# Altium footprint library k7_ext.PcbLib: 274 footprints (part 14 of 18)
Each footprint in its own frame and in the unit in brackets; x right, y up, seen from the top. Pads: shape width x height; smd on the part's side, far side on the other; paste and mask are expansions set on the pad; w line width, h text height; cw(c..) or ccw(c..) is an arc to the next point about the centre after c.
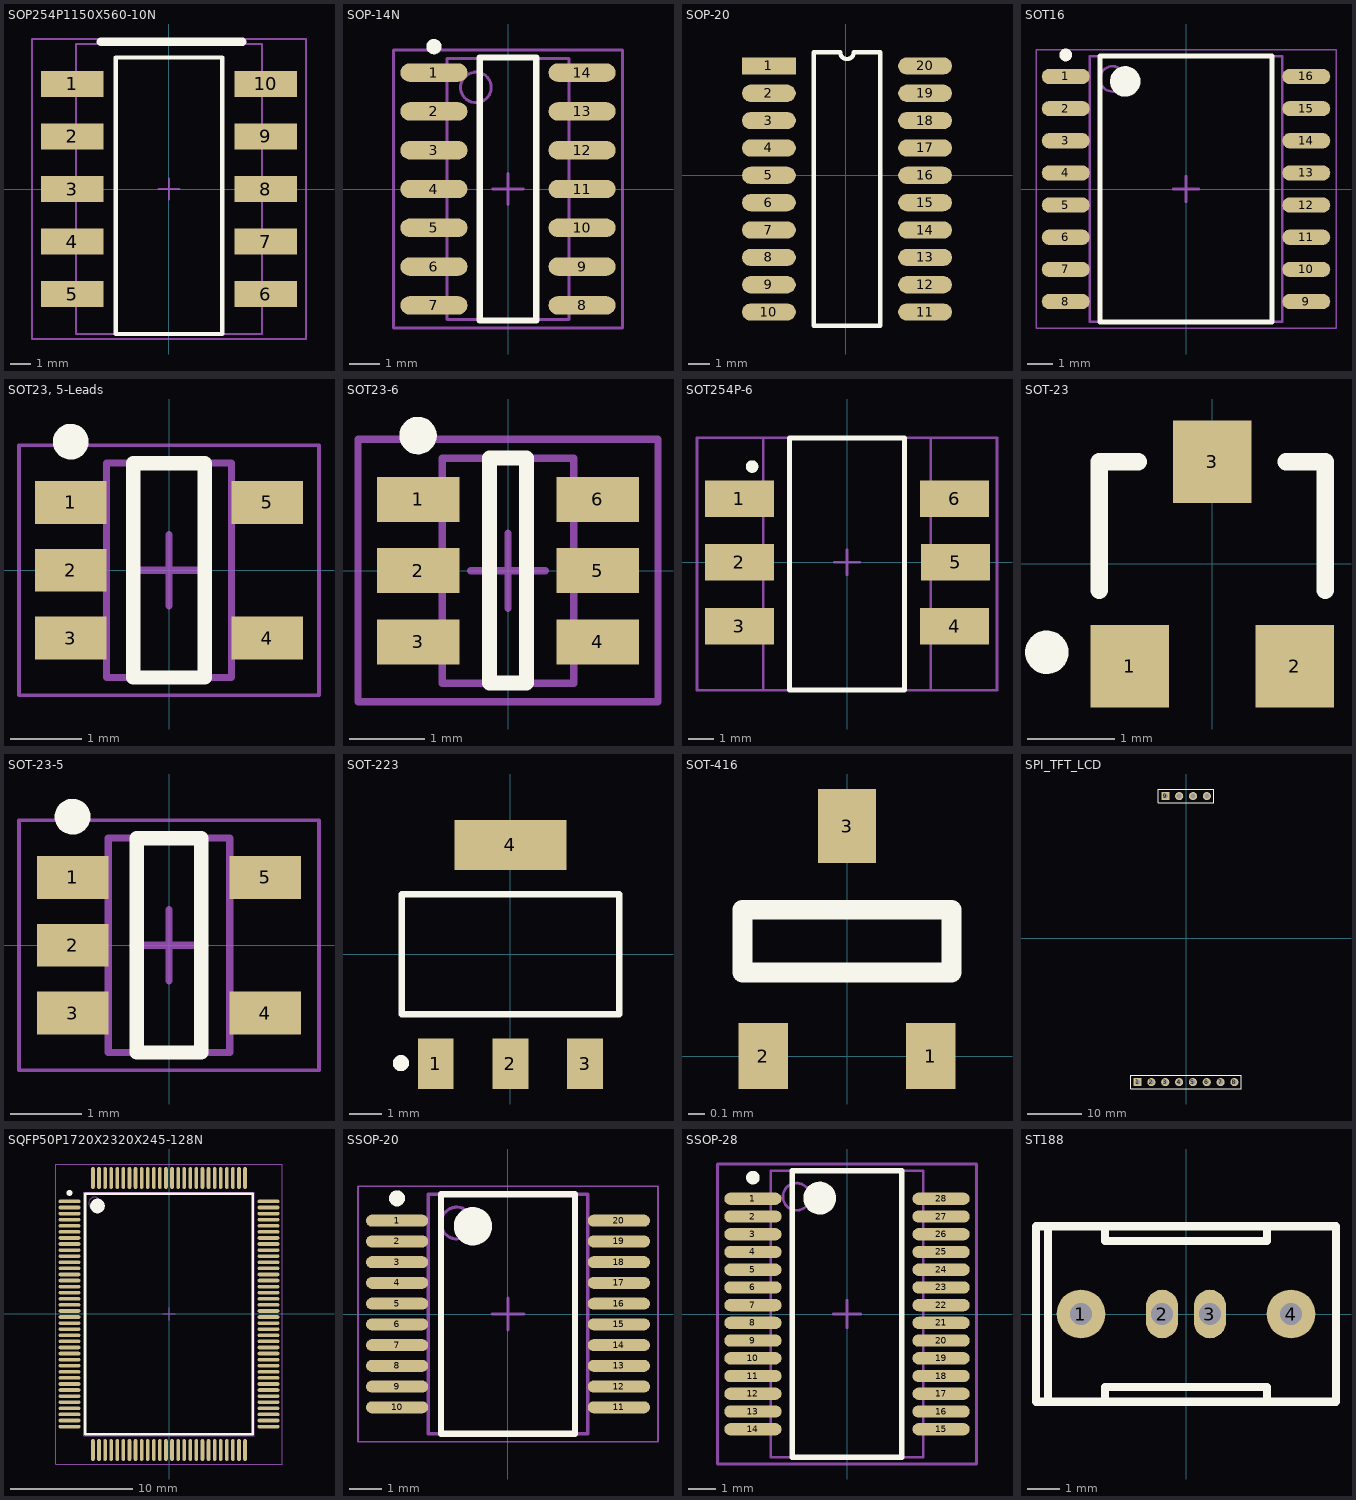
[diagram p13: the footprints below, top view; thin cyan lines are the x and y axes]

## SOP254P1150X560-10N [mm] "双继电器"
height 5.6
pads (10):
  rect 3x1.25 smd: 1(-4.675,5.08) 2(-4.675,2.54) 3(-4.675,0) 4(-4.675,-2.54) 5(-4.675,-5.08) 6(4.675,-5.08) 7(4.675,-2.54) 8(4.675,0) 9(4.675,2.54) 10(4.675,5.08)
Top Overlay:
  lines w0.2: -2.575,-7 2.575,-7 2.575,6.35 -2.575,6.35 -2.575,-7
  lines w0.4: -3.302,7.112 3.556,7.112
Mechanical 13:
  lines w0.1: -4.5,-7 4.5,-7 4.5,7 -4.5,7 -4.5,-7
Mechanical 15:
  lines w0.1: -0.5,0 0.5,0 ; 0,-0.5 0,0.5 ; -6.625,-7.25 6.625,-7.25 6.625,7.25 -6.625,7.25 -6.625,-7.25
3D body: height 5.6, standoff 0.25, extent -4.5,-7 4.5,7

## SOP-14N [mm] "SOP, 14-Leads,"
height 1.75
pads (14):
  oval 2.2x0.6 smd: 1(-2.425,3.81) 2(-2.425,2.54) 3(-2.425,1.27) 4(-2.425,0) 5(-2.425,-1.27) 6(-2.425,-2.54) 7(-2.425,-3.81) 8(2.425,-3.81) 9(2.425,-2.54) 10(2.425,-1.27) 11(2.425,0) 12(2.425,1.27) 13(2.425,2.54) 14(2.425,3.81)
Top Overlay:
  circle w0.25: c-2.425,4.66 r0.125
  lines w0.2: -0.925,-4.3 0.925,-4.3 0.925,4.3 -0.925,4.3 -0.925,-4.3
Mechanical 13:
  circle w0.1: c-1.05,3.325 r0.5
  lines w0.1: -2,-4.275 2,-4.275 2,4.275 -2,4.275 -2,-4.275
Mechanical 15:
  lines w0.1: -0.5,0 0.5,0 ; 0,-0.5 0,0.5 ; -3.75,-4.55 3.75,-4.55 3.75,4.55 -3.75,4.55 -3.75,-4.55
3D body: height 1.75, standoff 0.2, extent -2,-4.275 2,4.275

## SOP-20 [mm] "74ls244"
height 2.032
pads (20):
  rect 2.5x0.8 smd: 1(-3.556,5.08)
  oval 2.5x0.8 smd: 2(-3.556,3.81) 3(-3.556,2.54) 4(-3.556,1.27) 5(-3.556,0) 6(-3.556,-1.27) 7(-3.556,-2.54) 8(-3.556,-3.81) 9(-3.556,-5.08) 10(-3.556,-6.35) 11(3.694,-6.35) 12(3.694,-5.08) 13(3.694,-3.81) 14(3.694,-2.54) 15(3.694,-1.27) 16(3.694,0) 17(3.694,1.27) 18(3.694,2.54) 19(3.694,3.81) 20(3.694,5.08)
Top Overlay:
  lines w0.2: -1.471,-6.985 1.609,-6.985 1.609,5.715 0.386,5.715 cw(c0.069,5.715) -0.249,5.715 -1.471,5.715 -1.471,-6.985

## SOT16 [mm] "SOIC, 16-Leads, Body 10.30x7.50mm, Pitch 1.27mm, IPC Medium Density"
height 2.45
pads (16):
  oval 1.9x0.6 smd: 1(-4.75,4.445) 2(-4.75,3.175) 3(-4.75,1.905) 4(-4.75,0.635) 5(-4.75,-0.635) 6(-4.75,-1.905) 7(-4.75,-3.175) 8(-4.75,-4.445) 9(4.75,-4.445) 10(4.75,-3.175) 11(4.75,-1.905) 12(4.75,-0.635) 13(4.75,0.635) 14(4.75,1.905) 15(4.75,3.175) 16(4.75,4.445)
Top Overlay:
  circle w0.6: c-2.4,4.25 r0.3
  circle w0.25: c-4.75,5.295 r0.125
  lines w0.2: -3.4,-5.25 3.4,-5.25 3.4,5.25 -3.4,5.25 -3.4,-5.25
Mechanical 13:
  circle w0.1: c-2.9,4.35 r0.5
  lines w0.1: -3.8,-5.25 3.8,-5.25 3.8,5.25 -3.8,5.25 -3.8,-5.25
Mechanical 15:
  lines w0.05: -5.925,-5.5 5.925,-5.5 5.925,5.5 -5.925,5.5 -5.925,-5.5
  lines w0.1: -0.5,0 0.5,0 ; 0,-0.5 0,0.5
3D body: height 2.45, standoff 0.3, extent -3.8,-5.25 3.8,5.25

## SOT23, 5-Leads [mm] "SOT23, 5-Leads, Body 2.90x2.80mm, Pitch 0.95mm, IPC Medium Density"
height 1.45
pads (5):
  rect 1x0.6 smd: 1(-1.375,0.95) 2(-1.375,0) 3(-1.375,-0.95) 4(1.375,-0.95) 5(1.375,0.95)
Top Overlay:
  circle w0.25: c-1.375,1.8 r0.125
  lines w0.2: -0.5,-1.5 0.5,-1.5 0.5,1.5 -0.5,1.5 -0.5,-1.5
Mechanical 13:
  lines w0.1: -0.875,-1.5 -0.875,1.5 0.875,1.5 0.875,-1.5 -0.875,-1.5
Mechanical 15:
  lines w0.05: -2.1,-1.75 -2.1,1.75 2.1,1.75 2.1,-1.75 -2.1,-1.75
  lines w0.1: -0.5,0 0.5,0 ; 0,-0.5 0,0.5
3D body: height 1.45, standoff 0.15, extent -0.875,-1.5 0.875,1.5

## SOT23-6 [mm] "Max4173"
height 1.45
pads (6):
  rect 1.1x0.6 smd: 1(-1.2,0.95) 2(-1.2,0) 3(-1.2,-0.95) 4(1.2,-0.95) 5(1.2,0) 6(1.2,0.95)
Top Overlay:
  circle w0.25: c-1.2,1.8 r0.125
  lines w0.2: -0.25,-1.5 0.25,-1.5 0.25,1.5 -0.25,1.5 -0.25,-1.5
Mechanical 13:
  lines w0.1: -0.875,-1.5 -0.875,1.5 0.875,1.5 0.875,-1.5 -0.875,-1.5
Mechanical 15:
  lines w0.1: -0.5,0 0.5,0 ; 0,-0.5 0,0.5 ; -2,-1.75 -2,1.75 2,1.75 2,-1.75 -2,-1.75
3D body: height 1.45, standoff 0, extent -0.875,-1.5 0.875,1.5

## SOT254P-6 [mm] "继电器"
height 3.8
pads (6):
  rect 2.75x1.45 smd: 1(-4.283,2.54) 2(-4.283,0) 3(-4.283,-2.54) 4(4.283,-2.54) 5(4.318,0) 6(4.283,2.54)
Top Overlay:
  circle w0.25: c-3.775,3.815 r0.125
  lines w0.2: -2.286,-5.08 2.286,-5.08 2.286,4.953 -2.286,4.953 -2.286,-5.08
Mechanical 13:
  lines w0.1: -3.325,-5.08 -3.325,4.953 3.325,4.953 3.325,-5.08 -3.325,-5.08
Mechanical 15:
  lines w0.1: -0.5,0 0.5,0 ; 0,-0.5 0,0.5 ; -5.969,-5.08 -5.969,4.953 5.969,4.953 5.969,-5.08 -5.969,-5.08
3D body: height 3.8, standoff 0.05, extent -3.325,-5.08 3.325,4.953

## SOT-23 [mm]
height 1.1
pads (3):
  rect 0.9x0.95 smd: 1(-0.95,-1.175) 2(0.95,-1.175) 3(0,1.175)
Top Overlay:
  circle w0.25: c-1.903,-1.016 r0.125
  lines w0.2: -1.3,-0.3 -1.3,1.175 -0.85,1.175 ; 0.85,1.175 1.3,1.175 1.3,-0.3

## SOT-23-5 [mm] "SOT23, 5-Leads, Body 2.90x2.80mm, Pitch 0.95mm, IPC Medium Density"
height 1.1
pads (5):
  rect 1x0.6 smd: 1(-1.35,0.95) 2(-1.35,0) 3(-1.35,-0.95) 4(1.35,-0.95) 5(1.35,0.95)
Top Overlay:
  circle w0.25: c-1.35,1.8 r0.125
  lines w0.2: -0.45,-1.5 0.45,-1.5 0.45,1.5 -0.45,1.5 -0.45,-1.5
Mechanical 13:
  lines w0.1: -0.85,-1.5 -0.85,1.5 0.85,1.5 0.85,-1.5 -0.85,-1.5
Mechanical 15:
  lines w0.05: -2.1,-1.75 -2.1,1.75 2.1,1.75 2.1,-1.75 -2.1,-1.75
  lines w0.1: -0.5,0 0.5,0 ; 0,-0.5 0,0.5
3D body: height 1.1, standoff 0.1, extent -0.85,-1.5 0.85,1.5

## SOT-223 [mm]
height 1.8
pads (4):
  rect 1.1x1.55 smd: 1(-2.3,-3.375) 2(0,-3.375) 3(2.3,-3.375)
  rect 3.45x1.55 smd: 4(0,3.375)
Top Overlay:
  circle w0.25: c-3.376,-3.353 r0.125
  lines w0.2: -3.35,-1.85 3.35,-1.85 3.35,1.85 -3.35,1.85 -3.35,-1.85
3D body: height 0.3, standoff 0, extent 1.905,-3.937 2.794,-2.032
3D body: height 0.3, standoff 0, extent -0.508,-3.937 0.381,-2.032
3D body: height 0.3, standoff 0, extent -2.794,-3.937 -1.905,-2.032
3D body: height 0.3, standoff 0, extent -1.651,2.159 1.651,3.429
3D body: height 0.8, standoff 0, extent -3.302,-2.032 3.302,2.159

## SOT-416 [mm]
height 0.7
pads (3):
  rect 0.3x0.4 smd: 1(0.508,0) 2(-0.508,0)
  rect 0.35x0.45 smd: 3(0,1.397)
Top Overlay:
  lines w0.12: -0.635,0.508 -0.635,0.889 0.635,0.889 0.635,0.508 -0.635,0.508

## SPI_TFT_LCD [mm]
pads (12):
  rect 1.5x1.5 hole 0.9: 1(-8.91,-26.387) 9(-3.81,26.162)
  round 1.5 hole 0.9: 2(-6.37,-26.387) 3(-3.83,-26.387) 4(-1.29,-26.387) 5(1.25,-26.387) 6(3.79,-26.387) 7(6.33,-26.387) 8(8.87,-26.387) 10(-1.27,26.162) 11(1.27,26.162) 12(3.81,26.162)
Top Overlay:
  lines w0.2: -10.18,-27.657 -10.18,-25.087 10.14,-25.087 10.14,-27.657 -10.18,-27.657 ; -5.08,24.892 -5.08,27.462 5.09,27.462 5.09,24.892 -5.08,24.892

## SQFP50P1720X2320X245-128N [mm] "SQFP, 128-Leads, Body 14.00x20.00mm, Pitch 0.50mm, IPC Medium Density"
height 2.45
pads (128):
  oval 1.8x0.3 smd: 1(-8.175,9.25) 2(-8.175,8.75) 3(-8.175,8.25) 4(-8.175,7.75) 5(-8.175,7.25) 6(-8.175,6.75) 7(-8.175,6.25) 8(-8.175,5.75) 9(-8.175,5.25) 10(-8.175,4.75) 11(-8.175,4.25) 12(-8.175,3.75) 13(-8.175,3.25) 14(-8.175,2.75) 15(-8.175,2.25) 16(-8.175,1.75) 17(-8.175,1.25) 18(-8.175,0.75) 19(-8.175,0.25) 20(-8.175,-0.25) 21(-8.175,-0.75) 22(-8.175,-1.25) 23(-8.175,-1.75) 24(-8.175,-2.25) 25(-8.175,-2.75) 26(-8.175,-3.25) 27(-8.175,-3.75) 28(-8.175,-4.25) 29(-8.175,-4.75) 30(-8.175,-5.25) 31(-8.175,-5.75) 32(-8.175,-6.25) 33(-8.175,-6.75) 34(-8.175,-7.25) 35(-8.175,-7.75) 36(-8.175,-8.25) 37(-8.175,-8.75) 38(-8.175,-9.25) 65(8.175,-9.25) 66(8.175,-8.75) 67(8.175,-8.25) 68(8.175,-7.75) 69(8.175,-7.25) 70(8.175,-6.75) 71(8.175,-6.25) 72(8.175,-5.75) 73(8.175,-5.25) 74(8.175,-4.75) 75(8.175,-4.25) 76(8.175,-3.75) 77(8.175,-3.25) 78(8.175,-2.75) 79(8.175,-2.25) 80(8.175,-1.75) 81(8.175,-1.25) 82(8.175,-0.75) 83(8.175,-0.25) 84(8.175,0.25) 85(8.175,0.75) 86(8.175,1.25) 87(8.175,1.75) 88(8.175,2.25) 89(8.175,2.75) 90(8.175,3.25) 91(8.175,3.75) 92(8.175,4.25) 93(8.175,4.75) 94(8.175,5.25) 95(8.175,5.75) 96(8.175,6.25) 97(8.175,6.75) 98(8.175,7.25) 99(8.175,7.75) 100(8.175,8.25) 101(8.175,8.75) 102(8.175,9.25)
  oval 0.3x1.8 smd: 39(-6.25,-11.175) 40(-5.75,-11.175) 41(-5.25,-11.175) 42(-4.75,-11.175) 43(-4.25,-11.175) 44(-3.75,-11.175) 45(-3.25,-11.175) 46(-2.75,-11.175) 47(-2.25,-11.175) 48(-1.75,-11.175) 49(-1.25,-11.175) 50(-0.75,-11.175) 51(-0.25,-11.175) 52(0.25,-11.175) 53(0.75,-11.175) 54(1.25,-11.175) 55(1.75,-11.175) 56(2.25,-11.175) 57(2.75,-11.175) 58(3.25,-11.175) 59(3.75,-11.175) 60(4.25,-11.175) 61(4.75,-11.175) 62(5.25,-11.175) 63(5.75,-11.175) 64(6.25,-11.175) 103(6.25,11.175) 104(5.75,11.175) 105(5.25,11.175) 106(4.75,11.175) 107(4.25,11.175) 108(3.75,11.175) 109(3.25,11.175) 110(2.75,11.175) 111(2.25,11.175) 112(1.75,11.175) 113(1.25,11.175) 114(0.75,11.175) 115(0.25,11.175) 116(-0.25,11.175) 117(-0.75,11.175) 118(-1.25,11.175) 119(-1.75,11.175) 120(-2.25,11.175) 121(-2.75,11.175) 122(-3.25,11.175) 123(-3.75,11.175) 124(-4.25,11.175) 125(-4.75,11.175) 126(-5.25,11.175) 127(-5.75,11.175) 128(-6.25,11.175)
Top Overlay:
  circle w0.25: c-8.175,9.95 r0.125
  circle w0.6: c-5.875,8.875 r0.3
  lines w0.2: -6.875,-9.875 -6.875,9.875 6.875,9.875 6.875,-9.875 -6.875,-9.875
Mechanical 13:
  circle w0.1: c-6.1,9.1 r0.5
  lines w0.1: -7,-10 -7,10 7,10 7,-10 -7,-10
Mechanical 15:
  lines w0.05: -9.325,-12.325 -9.325,12.325 9.325,12.325 9.325,-12.325 -9.325,-12.325
  lines w0.1: -0.5,0 0.5,0 ; 0,-0.5 0,0.5
3D body: height 2.45, standoff 0.25, extent -7,-10 7,10

## SSOP-20 [mm]
height 1.85
pads (20):
  oval 1.95x0.38 smd: 1(-3.475,2.925) 2(-3.475,2.275) 3(-3.475,1.625) 4(-3.475,0.975) 5(-3.475,0.325) 6(-3.475,-0.325) 7(-3.475,-0.975) 8(-3.475,-1.625) 9(-3.475,-2.275) 10(-3.475,-2.925) 11(3.475,-2.925) 12(3.475,-2.275) 13(3.475,-1.625) 14(3.475,-0.975) 15(3.475,-0.325) 16(3.475,0.325) 17(3.475,0.975) 18(3.475,1.625) 19(3.475,2.275) 20(3.475,2.925)
Top Overlay:
  circle w0.25: c-3.475,3.625 r0.125
  circle w0.6: c-1.1,2.75 r0.3
  lines w0.2: -2.1,-3.75 -2.1,3.75 2.1,3.75 2.1,-3.75 -2.1,-3.75
Mechanical 13:
  circle w0.1: c-1.6,2.85 r0.5
  lines w0.1: -2.5,-3.75 -2.5,3.75 2.5,3.75 2.5,-3.75 -2.5,-3.75
Mechanical 15:
  lines w0.05: -4.7,-4 -4.7,4 4.7,4 4.7,-4 -4.7,-4
  lines w0.1: -0.5,0 0.5,0 ; 0,-0.5 0,0.5
3D body: height 1.85, standoff 1.65, extent -2.5,-3.75 2.5,3.75

## SSOP-28 [mm] "FT232"
height 2
pads (28):
  oval 2.1x0.45 smd: 1(-3.45,4.225) 2(-3.45,3.575) 3(-3.45,2.925) 4(-3.45,2.275) 5(-3.45,1.625) 6(-3.45,0.975) 7(-3.45,0.325) 8(-3.45,-0.325) 9(-3.45,-0.975) 10(-3.45,-1.625) 11(-3.45,-2.275) 12(-3.45,-2.925) 13(-3.45,-3.575) 14(-3.45,-4.225) 15(3.45,-4.225) 16(3.45,-3.575) 17(3.45,-2.925) 18(3.45,-2.275) 19(3.45,-1.625) 20(3.45,-0.975) 21(3.45,-0.325) 22(3.45,0.325) 23(3.45,0.975) 24(3.45,1.625) 25(3.45,2.275) 26(3.45,2.925) 27(3.45,3.575) 28(3.45,4.225)
Top Overlay:
  circle w0.6: c-1,4.25 r0.3
  circle w0.25: c-3.45,5 r0.125
  lines w0.2: -2,-5.25 2,-5.25 2,5.25 -2,5.25 -2,-5.25
Mechanical 13:
  circle w0.1: c-1.85,4.3 r0.5
  lines w0.1: -2.8,-5.25 2.8,-5.25 2.8,5.25 -2.8,5.25 -2.8,-5.25
Mechanical 15:
  lines w0.1: -0.5,0 0.5,0 ; 0,-0.5 0,0.5 ; -4.75,-5.5 4.75,-5.5 4.75,5.5 -4.75,5.5 -4.75,-5.5
3D body: height 2, standoff 0.09, extent -2.8,-5.25 2.8,5.25

## ST188 [mm] "反射式光电传感器"
height 8.2
pads (4):
  round 1.524 hole 0.7: 1(-3.29,0) 4(3.29,0)
  oval 1x1.524 hole 0.7: 2(-0.75,0) 3(0.75,0)
Top Overlay:
  lines w0.254: -4.318,-2.75 -4.318,2.75 ; -2.54,-2.75 -2.54,-2.286 2.54,-2.286 2.54,-2.75 ; -2.54,2.75 -2.54,2.286 2.54,2.286 2.54,2.75 ; -4.7,-2.75 -4.7,2.75 4.7,2.75 4.7,-2.75 -4.7,-2.75